# Altium schematic symbol library Diodes.SchLib: 20 symbols
Pins are listed as number, name and electrical type; pins without a type are passive.

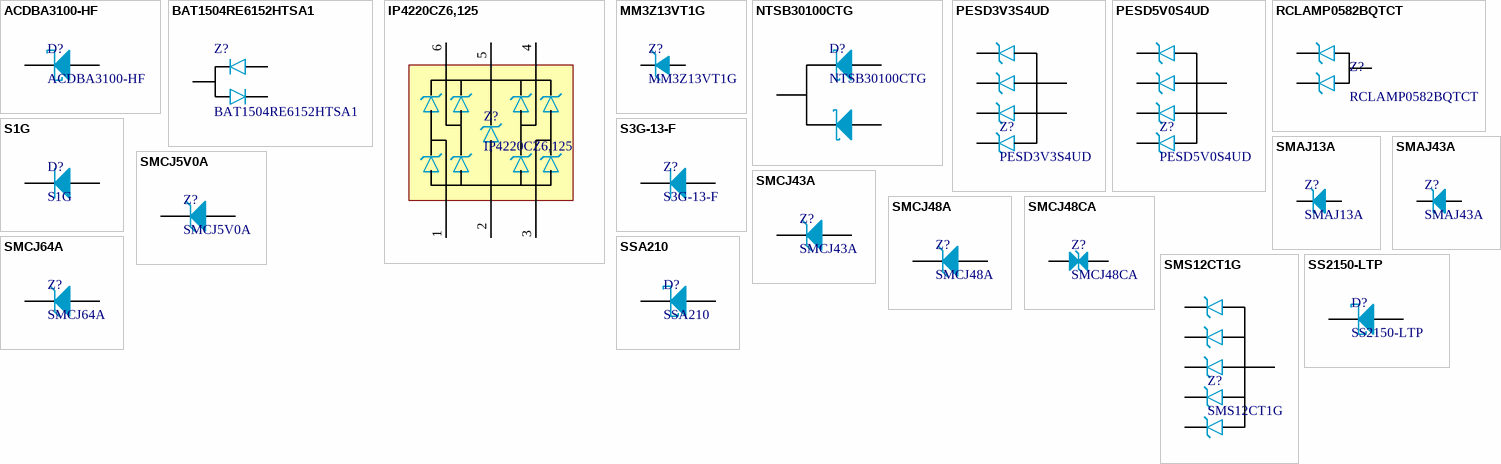
[diagram p0: symbols ACDBA3100-HF to SSA210]

## ACDBA3100-HF
designator D?
Schottky Diode, 100V 3A DO-214AC (SMA); Supplier 1: Digi-Key; Supplier Part Number 1: 641-1876-1-ND; Supplier 2: Digi-Key; Supplier Part Number 2: SK310A-LTPMSCT-ND
footprint Diode - DO-214AC (Molded Diode, 2-Leads, Body 4.3x2.6mm, IPC LOW Density)
pins: 1 C, 2

## BAT1504RE6152HTSA1
designator Z?
BAT15-04R - RF Diode Schottky - 1 Pair Series Connection 4V SOT-23-3; Supplier 1: Digi-Key; Supplier Part Number 1: 448-BAT1504RE6152HTSA1CT-ND
footprint BAT15-04R - SOT95P240X110-3M (SOT23, 3-Leads, Body 2.90x2.40mm, Pitch 0.95mm, IPC Low Density)
pins: 1, 2, 3

## IP4220CZ6,125
designator Z?
TVS DIODE 5.5V 6TSOP (Low capacitance, USB); Supplier 1: Digi-Key; Supplier 2: Mouser; Supplier 3: Arrow; Supplier Part Number 1: 1727-3578-1-ND; Supplier Part Number 2: 771-IP4220CZ6-T/R; Supplier Part Number 3: IP4220CZ6,125
footprint PESD3V3S4UD - SOT95P275X110-6N (SOT23, 6-Leads, Body 2.90x2.75mm, Pitch 0.95mm, IPC Medium Density)
pins: 1, 2, 3, 4, 5, 6

## MM3Z13VT1G
designator Z?
13V 300mW Zener diode; Supplier 1: Digi-Key; Supplier Part Number 1: MM3Z13VT1GOSCT-ND; Supplier 2: Mouser; Supplier Part Number 2: 863-MM3Z13VT1G; Supplier 3: Arrow; Supplier Part Number 3: aMWWo71kg6kijeXQmPekjr1N4TvLi2Nt1Lahe-YzFSI
footprint MM3ZxxxT1G - SODFL250X100-2M (SODFL, 2-Leads, Body 1.25x2.50mm, IPC Low Density)
pins: 1, 2

## NTSB30100CTG
designator D?
Shottky Diode, 2x "15A", Common Cathode; Supplier 1: Mouser; Supplier Part Number 1: 863-NTSB30100CTG; Supplier 2: Digi-Key; Supplier Part Number 2: NTSB30100CTGOS-ND; Supplier 3: Arrow; Supplier Part Number 3: n_ka_AL8m8OlXyyg6AB46nyEnVxgGl6NKI0acp3F_yg
footprint NTSB30100CTG - TO254P1524X483-3N (D2-PAK, 3-Pads, Body 9.6x10.3mm (max), IPC Medium Density)
pins: 1 A1, 3 A2, 4 CC

## PESD3V3S4UD
designator Z?
3.3V TVS, 4x; Supplier 1: Mouser; Supplier Part Number 1: 771-PESD3V3S4UDT/R; Supplier 2: Digi-Key; Supplier Part Number 2: 568-4266-1-ND; Supplier 3: Arrow; Supplier Part Number 3: w2bwZXxpSCQZLsj7ebwlir83dU-_35SLV2J53iQCBNs
footprint PESD3V3S4UD - SOT95P275X110-6N (SOT23, 6-Leads, Body 2.90x2.75mm, Pitch 0.95mm, IPC Medium Density)
pins: 1, 2, 3, 4, 5, 6

## PESD5V0S4UD
designator Z?
5.0V TVS, 4x; Supplier 1: Mouser; Supplier Part Number 1: 771-PESD5V0S4UD115; Supplier 2: Digi-Key; Supplier Part Number 2: 568-4267-1-ND; Supplier 3: Arrow; Supplier Part Number 3: X9GU2lmQDvss7uTaS1o9-4xVGQlm1ooMPuK6bP6tc4o
footprint PESD3V3S4UD - SOT95P275X110-6N (SOT23, 6-Leads, Body 2.90x2.75mm, Pitch 0.95mm, IPC Medium Density)
pins: 1, 2, 3, 4, 5, 6

## RCLAMP0582BQTCT
designator Z?
5V TVS, 2x ultra-low capacitance
footprint RCLAMP0582BQTCT (SOT23, 3-Leads, Body 1.7x1.8mm (max), Pitch 0.50mm, IPC Medium Density)
pins: 1, 2, 3

## S1G
designator D?
400V 1A Diode; Supplier 1: Digi-Key; Supplier Part Number 1: S1GFSCT-ND; Supplier 2: Mouser; Supplier Part Number 2: 512-S1G; Supplier 3: Arrow; Supplier Part Number 3: 5FHfWlTLEPpz8m29ibNrw2ZrxYuL1PK9nE_PNyfK974
footprint Diode - DO-214AC (Molded Diode, 2-Leads, Body 4.3x2.6mm, IPC LOW Density)
pins: 1 C, 2

## S3G-13-F
designator Z?
Diode, 400V 3A; Supplier 1: Mouser; Supplier Part Number 1: 621-S3G-F; Supplier 2: Digi-Key; Supplier Part Number 2: S3G-FDICT-ND; Supplier 3: Arrow; Supplier Part Number 3: ol_7Tm7QID-Sg90TCDG10zADg58oJywzcMbM8Yn3AV4
footprint SMCJ45A (Molded Diode, 2-Leads, Body 7.9x5.9mm, IPC Medium Density)
pins: 1, 2

## SMAJ13A
designator Z?
400W TVS, 13V; Supplier 1: Digi-Key; Supplier Part Number 1: 497-4290-1-ND; Supplier Part Number 2: Go6Et781UKYWSIMINUD6FPHmxQ7sBHHmClf2H40EKO4; Supplier 2: Arrow; Supplier 3: Digi-Key; Supplier Part Number 3: 497-7890-1-ND
footprint Diode - DO-214AC (Molded Diode, 2-Leads, Body 4.3x2.6mm, IPC LOW Density)
pins: 1, 2

## SMAJ43A
designator Z?
400W TVS, 43V; Supplier 1: Digi-Key; Supplier Part Number 1: SMAJ43A-E3/61GICT-ND; Supplier 2: Digi-Key; Supplier Part Number 2: 497-4290-1-ND; Supplier Part Number 3: Go6Et781UKYWSIMINUD6FPHmxQ7sBHHmClf2H40EKO4; Supplier 3: Arrow
footprint Diode - DO-214AC (Molded Diode, 2-Leads, Body 4.3x2.6mm, IPC LOW Density)
pins: 1, 2

## SMCJ5V0A
designator Z?
1500W TVS, 5V; Supplier 1: Digi-Key; Supplier Part Number 1: SMCJ5V0ACT-ND; Supplier 2: Arrow; Supplier Part Number 2: rth3LjHJ-aXn2z9bsc-xQT55qiMqPqFX0kQZNcT6DcE
footprint SMCJ45A (Molded Diode, 2-Leads, Body 7.9x5.9mm, IPC Medium Density)
pins: 1, 2

## SMCJ43A
designator Z?
1500W TVS, 43V; Supplier 1: Digi-Key; Supplier Part Number 1: SMCJ43AFSCT-ND; Supplier 2: Arrow; Supplier Part Number 2: Z1WyJ82RgmwKsOo1ta9uUn42d4-QJKI5gWcsz7B0iS4
footprint SMCJ45A (Molded Diode, 2-Leads, Body 7.9x5.9mm, IPC Medium Density)
pins: 1, 2

## SMCJ48A
designator Z?
1500W TVS, 48V
footprint SMCJ45A (Molded Diode, 2-Leads, Body 7.9x5.9mm, IPC Medium Density)
pins: 1, 2

## SMCJ48CA
designator Z?
1500W TVS, 48V, BI-DIRECTIONAL
footprint SMCJ45A (Molded Diode, 2-Leads, Body 7.9x5.9mm, IPC Medium Density)
pins: 1, 2

## SMCJ64A
designator Z?
1500W TVS, 64V
footprint SMCJ45A (Molded Diode, 2-Leads, Body 7.9x5.9mm, IPC Medium Density)
pins: 1, 2

## SMS12CT1G
designator Z?
12V TVS, 5x array; Supplier 1: Mouser; Supplier Part Number 1: 863-SMS12CT1G; Supplier 2: Digi-Key; Supplier Part Number 2: SMS12CT1GOSCT-ND
footprint PESD3V3S4UD - SOT95P275X110-6N (SOT23, 6-Leads, Body 2.90x2.75mm, Pitch 0.95mm, IPC Medium Density)
pins: 1, 2, 3, 4, 5, 6

## SS2150-LTP
designator D?
150V 2A Shottky Diode (Rectifier)
footprint Diode - DO-214AC (Molded Diode, 2-Leads, Body 4.3x2.6mm, IPC LOW Density)
pins: 1 C, 2

## SSA210
designator D?
100V 2A Shottky Diode (Rectifier); Supplier 1: Mouser; Supplier Part Number 1: 512-SSA210; Supplier 2: Digi-Key; Supplier Part Number 2: SSA210CT-ND
footprint Diode - DO-214AC (Molded Diode, 2-Leads, Body 4.3x2.6mm, IPC LOW Density)
pins: 1 C, 2